# Altium footprint library NUWCBallastBOMFootprints.PcbLib: 22 footprints (part 2 of 2)
Each footprint in its own frame and in the unit in brackets; x right, y up, seen from the top. Pads: shape width x height; smd on the part's side, far side on the other; paste and mask are expansions set on the pad; w line width, h text height; cw(c..) or ccw(c..) is an arc to the next point about the centre after c.
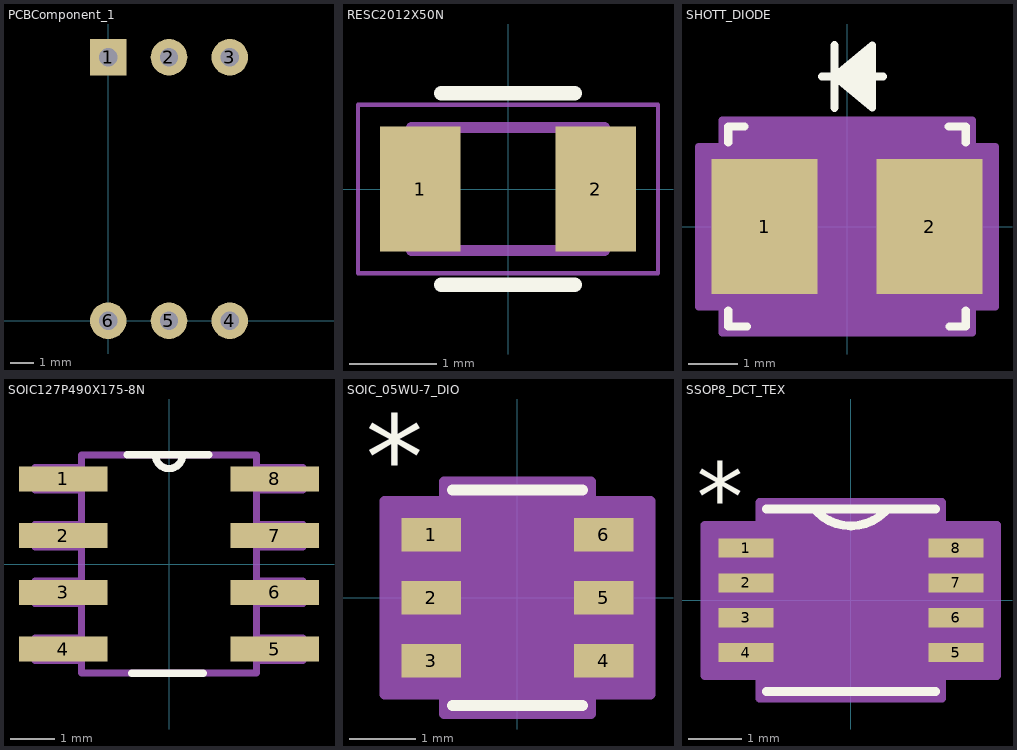
[diagram p1: the footprints below, top view; thin cyan lines are the x and y axes]

## PCBComponent_1 [mil]
pads (6):
  rect 60x60 hole 30: 1(0,433.07)
  round 60 hole 30: 2(100,433.07) 3(200,433.07) 4(200,0) 5(100,0) 6(0,0)
3D body: height 236.22, standoff 118.11, extent 60,170 150,270
3D body: height 118.11, standoff 0, extent -30,-20 230,460

## RESC2012X50N [mm]
pads (2):
  rect 0.92x1.42 smd: 1(-1,0) 2(1,0)
Top Overlay:
  lines w0.165: -0.762,-1.092 0.762,-1.092 ; -0.762,1.092 0.762,1.092
Mechanical 13:
  lines w0.127: -1.1,-0.7 1.1,-0.7 1.1,0.7 -1.1,0.7 -1.1,-0.7
Mechanical 15:
  lines w0.05: -1.71,-0.96 1.71,-0.96 1.71,0.96 -1.71,0.96 -1.71,-0.96
3D body "step_temp.STEP": height 0.5, standoff 0, extent -1,-0.625 1,0.625

## SHOTT_DIODE [mil]
pads (2):
  rect 85x108 smd paste+0 mask+0: 1(-66,0) 2(66,0)
Top Overlay:
  lines w6: 20,100 -10,120 ; 20,105 -10,120 ; 20,110 -10,120 ; 20,115 -10,120 ; 20,125 -10,120 ; 20,130 -10,120 ; 20,135 -10,120 ; 20,140 -10,120 ; -10,120 20,145 20,95 -10,120
  lines w6.5: -95,-67.1 -95,-80 -80,-80 ; -95,67.1 -95,80 -82.1,80 ; -20,120 28.9,120 ; -10,95 -10,145 ; 81.36,80.07 94.26,80.07 ; 82.1,-80 95,-80 95,-67.1 ; 95,67.1 95,80
Mechanical 13:
  lines w1: -20,120 30,120 ; -10,95 -10,145 ; 20,100 -10,120 ; 20,105 -10,120 ; 20,110 -10,120 ; 20,115 -10,120 ; 20,125 -10,120 ; 20,130 -10,120 ; 20,135 -10,120 ; 20,140 -10,120 ; -10,120 20,145 20,95 -10,120 ; -90,-75 90,-75 90,75 -90,75 -90,-75
Mechanical 15:
  region: -100,-64 -118.5,-64 -118.5,64 -100,64 -100,85 100,85 100,64 118.5,64 118.5,-64 100,-64 100,-85 -100,-85
  lines w6: -118.5,-64 -118.5,64 -100,64 -100,85 100,85 100,64 118.5,64 118.5,-64 100,-64 100,-85 -100,-85 -100,-64 -118.5,-64
3D body "SMB_ONS.step": height 97.01, standoff 0, extent -90,-75 90,75

## SOIC127P490X175-8N [mil]
pads (8):
  rect 78x22 smd paste+0 mask+4.02: 1(-93,75) 2(-93,25) 3(-93,-25) 4(-93,-75) 5(93,-75) 6(93,-25) 7(93,25) 8(93,75)
Top Overlay:
  lines w6.5: -37,96 -12,96 ; -33,-96 30,-96 ; 35,96 12,96 ; -12,96 ccw(c0,96) 12,96 ; -12,96 12,96
Mechanical 13:
  lines w0: -12,96 ccw(c0,96) 12,96
  lines w6: -118,-85 -118,-65 -77,-65 -77,-85 -118,-85 ; -118,-35 -118,-15 -77,-15 -77,-35 -118,-35 ; -118,15 -118,35 -77,35 -77,15 -118,15 ; -118,65 -118,85 -77,85 -77,65 -118,65 ; -77,-96 77,-96 77,96 12,96 -12,96 -77,96 -77,-96 ; 77,-85 77,-65 118,-65 118,-85 77,-85 ; 77,-35 77,-15 118,-15 118,-35 77,-35 ; 77,15 77,35 118,35 118,15 77,15 ; 77,65 77,85 118,85 118,65 77,65
3D body "step_temp.STEP": height 68.9, standoff 0, extent -118.11,-96.46 118.11,96.46

## SOIC_05WU-7_DIO [mm]
pads (6):
  rect 0.896x0.507 smd paste+0 mask+0: 1(-1.299,0.95) 2(-1.299,0) 3(-1.299,-0.95) 4(1.299,-0.95) 5(1.299,0) 6(1.299,0.95)
Top Overlay:
  lines w0.165: -0.978,-1.626 0.978,-1.626 ; -0.978,1.626 0.978,1.626
  text "*" at -2.286,1.499 h1.27
Mechanical 13:
  lines w0.025: -0.305,1.499 ccw(c0,1.499) 0.305,1.499 ; -1.397,-1.179 -0.851,-1.179 -0.851,-0.721 -1.397,-0.721 -1.397,-1.179 ; -1.397,-0.229 -0.851,-0.229 -0.851,0.229 -1.397,0.229 -1.397,-0.229 ; -1.397,0.721 -0.851,0.721 -0.851,1.179 -1.397,1.179 -1.397,0.721 ; -0.851,-1.499 -0.851,1.499 0.851,1.499 0.851,-1.499 -0.851,-1.499 ; 0.851,-1.179 1.397,-1.179 1.397,-0.721 0.851,-0.721 0.851,-1.179 ; 0.851,-0.229 1.397,-0.229 1.397,0.229 0.851,0.229 0.851,-0.229 ; 0.851,0.721 1.397,0.721 1.397,1.179 0.851,1.179 0.851,0.721
  text "*" at -0.787,0.152 h1.27
Mechanical 15:
  region: -1.105,-1.458 -2.001,-1.458 -2.001,1.458 -1.105,1.458 -1.105,1.753 1.105,1.753 1.105,1.458 2.001,1.458 2.001,-1.458 1.105,-1.458 1.105,-1.753 -1.105,-1.753
  lines w0.152: -2.001,-1.458 -1.105,-1.458 -1.105,-1.753 1.105,-1.753 1.105,-1.458 2.001,-1.458 2.001,1.458 1.105,1.458 1.105,1.753 -1.105,1.753 -1.105,1.458 -2.001,1.458 -2.001,-1.458
3D body "SOIC_05WU-7_DIO.step": height 0.99, standoff 0, extent -1.397,-1.499 1.397,1.499

## SSOP8_DCT_TEX [mm]
pads (8):
  rect 1.023x0.355 smd paste+0 mask+0: 1(-1.959,0.975) 2(-1.959,0.325) 3(-1.959,-0.325) 4(-1.959,-0.975) 5(1.959,-0.975) 6(1.959,-0.325) 7(1.959,0.325) 8(1.959,0.975)
Top Overlay:
  lines w0.165: -1.575,-1.702 1.575,-1.702 ; -1.575,1.702 1.575,1.702 ; -0.635,1.651 ccw(c0,2.286) 0.635,1.651
  text "*" at -2.87,1.321 h1.27
Mechanical 13:
  lines w0: -0.305,1.575 ccw(c0,1.575) 0.305,1.575
  lines w0.025: -2.121,-1.127 -1.448,-1.127 -1.448,-0.823 -2.121,-0.823 -2.121,-1.127 ; -2.121,-0.477 -1.448,-0.477 -1.448,-0.173 -2.121,-0.173 -2.121,-0.477 ; -2.121,0.173 -1.448,0.173 -1.448,0.477 -2.121,0.477 -2.121,0.173 ; -2.121,0.823 -1.448,0.823 -1.448,1.127 -2.121,1.127 -2.121,0.823 ; -1.448,-1.575 -1.448,1.575 1.448,1.575 1.448,-1.575 -1.448,-1.575 ; 1.448,-1.127 2.121,-1.127 2.121,-0.823 1.448,-0.823 1.448,-1.127 ; 1.448,-0.477 2.121,-0.477 2.121,-0.173 1.448,-0.173 1.448,-0.477 ; 1.448,0.173 2.121,0.173 2.121,0.477 1.448,0.477 1.448,0.173 ; 1.448,0.823 2.121,0.823 2.121,1.127 1.448,1.127 1.448,0.823
  text "*" at -1.384,0.229 h1.27
Mechanical 15:
  region: -1.702,-1.406 -2.725,-1.406 -2.725,1.406 -1.702,1.406 -1.702,1.829 1.702,1.829 1.702,1.406 2.725,1.406 2.725,-1.406 1.702,-1.406 1.702,-1.829 -1.702,-1.829
  lines w0.152: -2.725,-1.406 -1.702,-1.406 -1.702,-1.829 1.702,-1.829 1.702,-1.406 2.725,-1.406 2.725,1.406 1.702,1.406 1.702,1.829 -1.702,1.829 -1.702,1.406 -2.725,1.406 -2.725,-1.406
3D body "SSOP8_DCT_TEX.step": height 1.3, standoff 0, extent -2.121,-1.575 2.121,1.575